# Altium schematic symbol library Schlib1.SchLib: 6 symbols
Pins are listed as number, name and electrical type; pins without a type are passive.

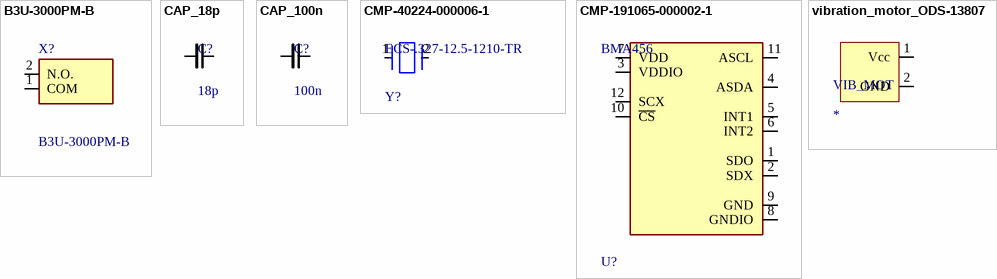
[diagram p0: symbols B3U-3000PM-B to vibration_motor_ODS-13807]

## B3U-3000PM-B
designator X?
Tactile Switches Side Actuate w/Boss w/out Ground Term; Manufacturer_Name: Omron Electronics; Geometry.Height: 1.35mm; Mouser Part Number: 653-B3U-3000PM-B; Mouser Price/Stock: https://www.mouser.co.uk/ProductDetail/Omron-Electronics/B3U-3000PM-B?qs=hnUcNC2tU0qDz9eschRYDA%3D%3D; Manufacturer_Part_Number: B3U-3000PM-B; Datasheet Link: *
footprint B3U3000PMB
pins: 1 COM, 2 N.O.

## CAP_18p
designator C?, comment 18p
Ceramic capacitor
footprint 0402_CAP_REFLOW
pins: 1, 2

## CAP_100n
designator C?, comment 100n
Ceramic capacitor
footprint 0402_CAP_REFLOW
pins: 1, 2

## CMP-40224-000006-1
designator Y?, comment ECS-.327-12.5-1210-TR
CRYSTAL 32.7680KHZ 12.5PF SMD; Manufacturer: ECS International; Frequency: 32.768kHz; Esr: 90kΩ; Tolerance: 20ppm; Device Class L1: Passive Components; Load Capacitance: 12.5pF; Temperature: -40°C to +85°C; ComponentLink2URL: https://ecsxtal.com/store/pdf/ECX-1210.pdf; Series: ECX-1210; Octopart: https://octopart.com/ecs-.327-12.5-1210-tr-ecs+international-81221340; ComponentLink2Description: Datasheet; Temperature Range Low: -40°C; Digikey Description: CRYSTAL 32.7680KHZ 12.5PF SMD; Lead Free: Yes; RoHS: TRUE; Device Class L3: Crystals; Automotive: No; Category: Crys; Height: 0.5mm; Manufacturer Part Number: ECS-.327-12.5-1210-TR; Temperature Range High: +85°C; Device Class L2: Crystals / Oscillators; Package: ECX-1210
footprint ECS32712534BCTR
pins: 1 In/Out, 2 Out/In

## CMP-191065-000002-1
designator U?, comment BMA456
ACCEL 2-16G I2C/SPI 12LGA; Manufacturer: Bosch Sensortec; Accel Range: 2/4/8/16g; Max Supply Voltage: 3.6V; Accel Axis: X+Y and Z; Frequency: 1.6kHz; Operating Supply Current: 150uA; Min Supply Voltage: 1.2V; Sensor Output: I2C,SPI; Accel Sensitivity: 2048-16384LSB/g; Mouser Description: BMA456 Series 3.6 V 1.6 kHz Digital Triaxial Acceleration Sensor - LGA-12; Category: IC; Ambient Temperature Range High: +85°C; Package: 0; RoHS: TRUE; Device Class L2: Motion Sensors; ComponentLink2URL: https://ae-bst.resource.bosch.com/media/_tech/media/datasheets/BST-BMA456-DS000.pdf; Temperature: -40°C to +85°C; Digikey Description: ACCEL 2-16G I2C/SPI 12LGA; Device Class L1: Sensors; Height: 0.7mm; Temperature Range Low: -40°C; Automotive: No; Manufacturer Part Number: BMA456; Lead Free: Yes; ComponentLink2Description: Datasheet; Octopart: https://octopart.com/bma456-bosch+sensortec-99488369; Temperature Range High: +85°C; Device Class L3: Accelerometers; Ambient Temperature Range Low: -40°C
footprint FP-BMA456-MFG
pins: 1 SDO, 2 SDX, 3 VDDIO, 4 ASDA, 5 INT1, 6 INT2, 7 VDD, 8 GNDIO, 9 GND, 10 ~{CS}, 11 ASCL, 12 SCX

## vibration_motor_ODS-13807
designator VIB_MOT
footprint RHDR20W60P0X254_1X20_5130X250X888P
pins: 1 Vcc, 2 GND